# Altium footprint library SR PCB Library V01.PcbLib: 402 footprints (part 5 of 26)
Each footprint in its own frame and in the unit in brackets; x right, y up, seen from the top. Pads: shape width x height; smd on the part's side, far side on the other; paste and mask are expansions set on the pad; w line width, h text height; cw(c..) or ccw(c..) is an arc to the next point about the centre after c.
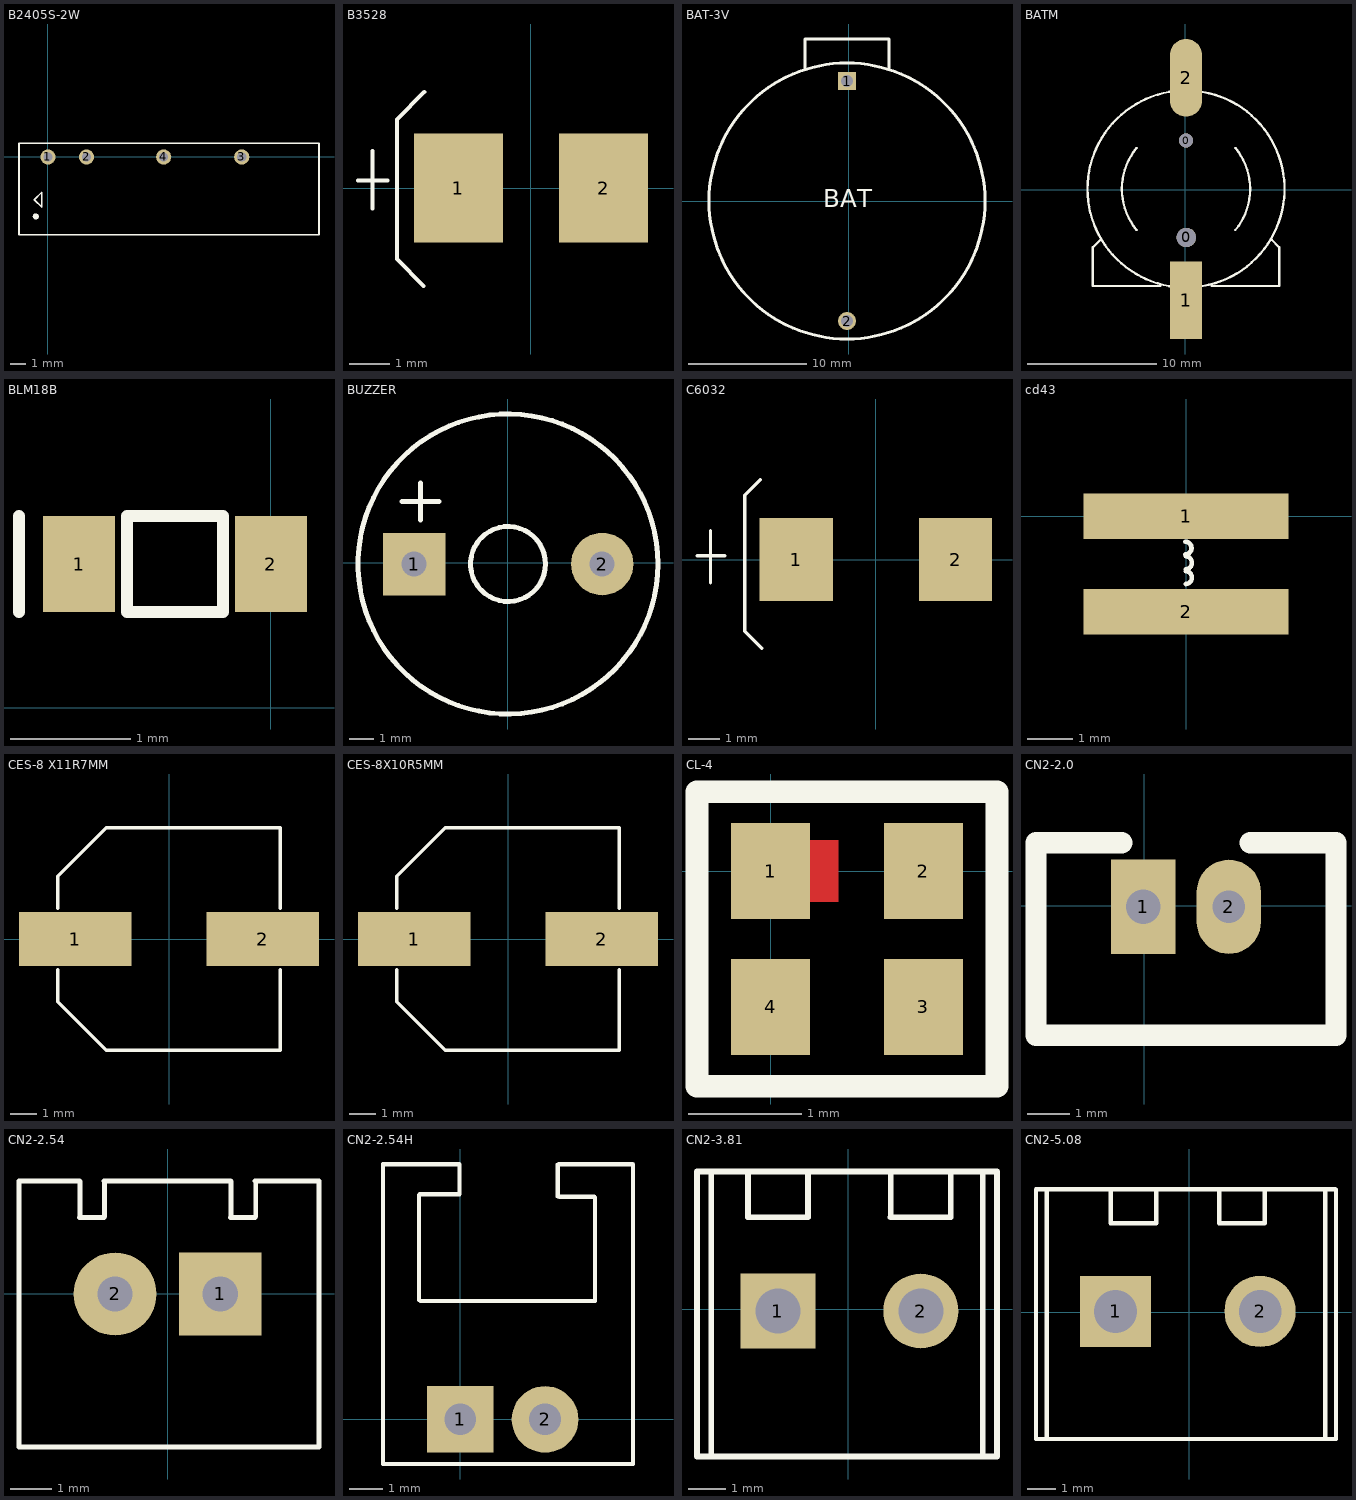
[diagram p4: the footprints below, top view; thin cyan lines are the x and y axes]

## B2405S-2W [mm] "DC模块"
pads (4):
  round 1 hole 0.6: 1(0,0) 2(2.53,0) 3(12.71,0) 4(7.59,0)
Top Overlay:
  circle w0.2: c-0.8,-3.9 r0.1
  lines w0.1: -1.9,-5.1 17.78,-5.1 17.78,0.9 -1.9,0.9 -1.9,-5.1 ; -0.9,-2.8 -0.4,-3.3 -0.4,-2.3 -0.9,-2.8

## B3528 [mm]
pads (2):
  rect 2.2x2.7 smd: 1(-1.8,0) 2(1.8,0)
Top Overlay:
  lines w0.1: -4.29,0.195 -3.56,0.195 ; -3.925,-0.509 -3.925,0.925 ; -2.66,-2.426 -3.325,-1.761 -3.325,1.707 -2.647,2.385

## BAT-3V [mil]
pads (2):
  rect 60x60 hole 40: 1(-5,401)
  round 60 hole 40: 2(-5,-399)
Top Overlay:
  circle w10: c-5,1 r460
  lines w10: -145,441 -145,541 135,541 135,441
  text "BAT" at -85,-19 h60

## BATM [mm]
pads (4):
  round 1.1 hole 1.1 unplated: 0(0.076,3.825)
  round 1.5 hole 1.5 unplated: 0(0.101,-3.675)
  rect 2.5x6 smd: 1(0.076,-8.525)
  oval 2.5x6 smd: 2(0.076,8.675)
Top Overlay:
  lines w0.178: -6.524,-3.825 -7.124,-4.425 -7.124,-7.425 -1.924,-7.425 ; -3.739,-3.095 cw(c0.076,0.075) -3.736,3.247 ; -0.757,-7.5 cw(c0.076,0.075) -7.544,0.075 cw(c0.076,0.075) -0.757,7.649 ; 0.909,-7.5 ccw(c0.076,0.075) 0.909,7.649 ; 2.076,-7.425 7.276,-7.425 7.276,-4.425 6.701,-3.85 ; 3.886,-3.1 ccw(c0.076,0.075) 3.889,3.247

## BLM18B [mm]
pads (2):
  rect 0.6x0.8 smd: 1(-1.6,1.2) 2(0,1.2)
Top Overlay:
  lines w0.1: -2.1,0.8 -2.1,1.6 ; -1.2,0.8 -0.4,0.8 -0.4,1.6 -1.2,1.6 -1.2,0.8

## BUZZER [mil]
pads (2):
  rect 100x100 hole 40: 1(-150,-2)
  round 100 hole 40: 2(151.18,-2)
Top Overlay:
  circle w7.87: c0.39,-2 r240
  circle w7.87: c0.39,-2 r60
  lines w7.87: -169.61,98 -109.61,98 ; -139.61,68 -139.61,128

## C6032 [mm]
pads (2):
  rect 2.3x2.6 smd: 1(-2.5,0) 2(2.5,0)
Top Overlay:
  lines w0.1: -5.619,0.123 -4.738,0.123 ; -5.193,-0.728 -5.193,0.913 ; -3.63,2.509 -4.118,2.022 -4.118,-2.252 -3.585,-2.786

## cd43 [mm]
pads (2):
  rect 4.5x1 smd: 1(0,0) 2(0,-2.1)
Top Overlay:
  lines w0.1: -0.02,-0.841 ccw(c-0.02,-0.7) -0.02,-0.559 ; -0.01,-1.49 ccw(c-0.01,-1.349) -0.01,-1.207 ; -0.01,-1.164 ccw(c-0.01,-1.023) -0.01,-0.881

## CES-8 X11R7MM [mm] "CES-8 X11R7MM"
pads (2):
  rect 4.2x2 smd: 1(-3.5,0) 2(3.5,0)
Top Overlay:
  lines w0.127: -4.15,-1.15 -4.15,-2.35 -2.35,-4.15 4.15,-4.15 4.15,-1.15 ; -4.15,1.15 -4.15,2.35 -2.35,4.15 4.15,4.15 4.15,1.15
Mechanical 8:
  text "2" at 3.5,-0.254 h0.64
  text "1" at -3.5,-0.254 h0.64
Mechanical 14:
  lines w0.025: 5.6,-0.95 5.6,0.95

## CES-8X10R5MM [mm] "CES-8X10R5MM"
pads (2):
  rect 4.2x2 smd: 1(-3.5,0) 2(3.5,0)
Top Overlay:
  lines w0.127: -4.15,-1.15 -4.15,-2.35 -2.35,-4.15 4.15,-4.15 4.15,-1.15 ; -4.15,1.15 -4.15,2.35 -2.35,4.15 4.15,4.15 4.15,1.15
Mechanical 8:
  text "2" at 3.5,-0.254 h0.64
  text "1" at -3.5,-0.254 h0.64
Mechanical 14:
  lines w0.025: 5.6,-0.95 5.6,0.95

## CL-4 [mm]
pads (4):
  rect 0.7x0.85 smd: 1(0,0) 2(1.35,0) 3(1.35,-1.2) 4(0,-1.2)
Top Layer:
  rectangle: 0.35,-0.275 0.6,0.275
Top Overlay:
  lines w0.2: -0.65,-1.9 2,-1.9 2,0.7 -0.35,0.7 -0.65,0.7 -0.65,-1.9

## CN2-2.0 [mm]
pads (2):
  rect 1.5x2.2 hole 0.8: 1(-0.025,-0.025)
  oval 1.5x2.2 hole 0.762: 2(1.975,-0.025)
Top Overlay:
  lines w0.5: -0.525,1.475 -2.525,1.475 -2.525,-3.025 4.475,-3.025 4.475,1.475 2.475,1.475

## CN2-2.54 [mm]
pads (2):
  rect 2x2 hole 0.85: 1(1.27,0)
  round 2 hole 0.85: 2(-1.27,0)
Top Overlay:
  lines w0.12: -1.539,2.733 -1.522,2.716 ; -1.522,2.716 -1.505,2.733 1.515,2.733 1.532,2.716 1.532,1.868 1.515,1.851 2.109,1.851 2.126,1.868 2.126,2.716 2.109,2.733 3.654,2.733 3.654,-3.7 -3.592,-3.7 -3.592,2.733 -2.133,2.733 -2.116,2.716 -2.116,1.868 -2.133,1.851 -1.539,1.851 -1.522,1.868 -1.522,2.716

## CN2-2.54H [mm]
height 11
pads (2):
  rect 2x2 hole 0.95: 1(0,0)
  round 2 hole 0.95: 2(2.54,0)
Top Overlay:
  lines w0.12: -2.322,7.662 -2.322,-1.338 5.178,-1.338 5.178,7.095
  lines w0.127: -2.322,7.654 -0.92,7.654 -0.034,7.654 -0.025,7.645 -0.025,6.841 ; -1.245,3.581 -1.245,6.731 ; -1.219,6.756 -0.025,6.756 -0.025,6.909 ; -1.194,3.556 4.039,3.556 4.039,6.655 4.013,6.68 2.972,6.68 ; 2.921,6.689 2.921,7.645 ; 5.178,7.095 5.178,7.647 5.171,7.654 5.051,7.654 ; 5.051,7.654 2.955,7.654 5.051,7.654

## CN2-3.81 [mm]
pads (2):
  rect 2x2 hole 1.2: 1(-1.88,-0.051)
  round 2 hole 1.2: 2(1.93,-0.051)
Top Overlay:
  lines w0.15: -3.658,-3.931 -3.658,3.649 ; -2.68,3.649 -2.68,2.459 -2.69,2.449 -1.08,2.449 ; 1.13,3.649 1.13,2.459 1.12,2.449 2.73,2.449 2.73,3.639 2.72,3.649 ; 3.581,-3.931 3.581,3.649 ; -1.08,2.449 -1.08,3.639 ; -1.08,2.449 -1.08,3.639 ; -1.08,3.639 -1.09,3.649 -1.08,3.639 ; -4.039,-3.931 3.962,-3.931 3.962,3.67 -4.039,3.67 -4.039,-3.931

## CN2-5.08 [mm]
pads (2):
  rect 2.5x2.5 hole 1.5: 1(-2.591,0.025)
  round 2.5 hole 1.5: 2(2.489,0.025)
Top Overlay:
  lines w0.15: -5.385,4.31 -5.385,-4.454 5.156,-4.454 5.156,4.31 ; -5.385,4.318 5.131,4.318 ; -5.004,-4.454 -5.004,4.31 ; -2.756,4.325 -2.756,3.135 -2.766,3.125 -1.156,3.125 ; 1.054,4.325 1.054,3.135 1.044,3.125 2.654,3.125 2.654,4.315 2.644,4.325 ; 4.775,-4.454 4.775,4.31 ; -1.156,3.125 -1.156,4.315 ; -1.156,3.125 -1.156,4.315 ; -1.156,4.315 -1.166,4.325 -1.156,4.315